# EAGLE library part 7555 (library synthdiy)
General purpose CMOS TIMER
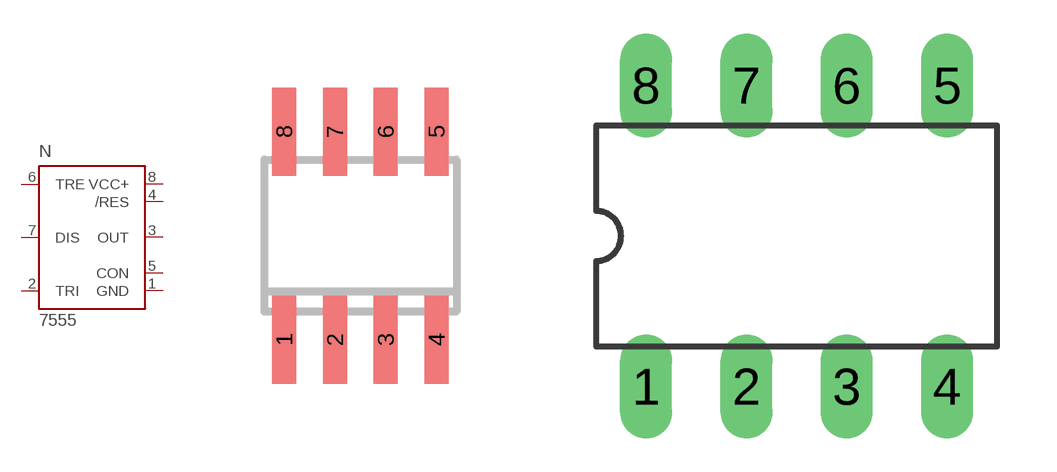
[diagram p16: symbol with the pads of SO08; footprints SO08, DIL08]

Designator prefix N

## 7555D  [SO08]
1  GND  pwr
2  TRI  in
3  OUT  out
4  /RES  in
5  CON  in
6  TRE  in
7  DIS  in
8  VCC+  pwr

## 7555N  [DIL08]
Pads as for SO08

## Footprint SO08 (pad centres in mm)
Small Outline Package 8
smd 0.6 x 2.2: 1 -1.905,-2.6; 2 -0.635,-2.6; 3 0.635,-2.6; 4 1.905,-2.6; 5 1.905,2.6; 6 0.635,2.6; 7 -0.635,2.6; 8 -1.905,2.6

## Footprint DIL08 (pad centres in mm)
Dual In Line 8
drill 0.813 long: 1 -3.81,-3.81; 2 -1.27,-3.81; 3 1.27,-3.81; 4 3.81,-3.81; 5 3.81,3.81; 6 1.27,3.81; 7 -1.27,3.81; 8 -3.81,3.81